# Altium schematic symbol library 2021-04-29_10-36-20.SchLib: 2 symbols
Pins are listed as number, name and electrical type; pins without a type are passive.

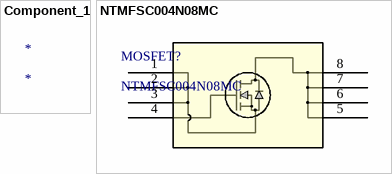
[diagram p0: symbols Component_1 to NTMFSC004N08MC]

## Component_1
designator *

## NTMFSC004N08MC
designator MOSFET?
No Description Available; Vendor: ON Semiconductor; Built_By: EMA_Cory; SourceLibrary: Add_to_database_2021-03-02; Datasheet: https://www.onsemi.com/pub/Collateral/NTMFSC004N08MC-D.PDF; Manufacturer_Part_Number: NTMFSC004N08MC; Copyright: Copyright (C) 2018 Accelerated Designs. All rights reserved; RefDes: RefDes; Type: DEV
footprint DFN8_506EG_ONS
pins: 1, 2, 3, 4, 5, 6, 7, 8